# Altium schematic symbol library battery_single.SchLib: 1 symbol
Pins are listed as number, name and electrical type; pins without a type are passive.

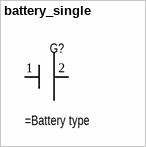
[diagram p0: symbol battery_single]

## battery_single
designator G?
pins: 1 -, 2 +